# EAGLE library part HEADER-2X12 (library Header and Connector)
Header - 2X12
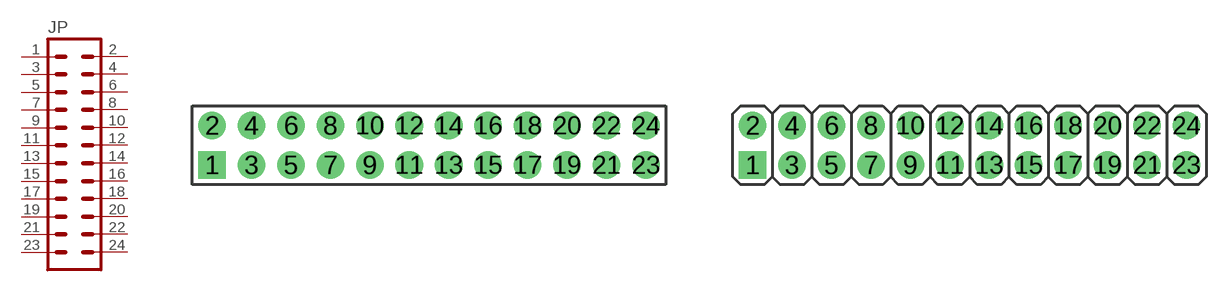
[diagram p36: symbol with the pads of HDR-F2X12; footprints HDR-F2X12, HDR-M2X12]

Designator prefix JP

## HEADER-2X12(_FEMALE) (CYTRON-PC: CN-PH-F240S; DESC: Female Header-2x40 ways; VALUE: 12/40 ways)  [HDR-F2X12]
1  1  pas
2  2  pas
3  3  pas
4  4  pas
5  5  pas
6  6  pas
7  7  pas
8  8  pas
9  9  pas
10  10  pas
11  11  pas
12  12  pas
13  13  pas
14  14  pas
15  15  pas
16  16  pas
17  17  pas
18  18  pas
19  19  pas
20  20  pas
21  21  pas
22  22  pas
23  23  pas
24  24  pas

## HEADER-2X12_(MALE) (CYTRON-PC: CN-PH-F240S; DESC: Male Header-2x40 ways; VALUE: 12/40 ways)  [HDR-M2X12]
Pads as for HDR-F2X12

## Footprint HDR-F2X12 (pad centres in mm)
drill 1 pad 1.778 square: 1 -13.97,-1.27
drill 1 pad 1.778: 2 -13.97,1.27; 3 -11.43,-1.27; 4 -11.43,1.27; 5 -8.89,-1.27; 6 -8.89,1.27; 7 -6.35,-1.27; 8 -6.35,1.27; 9 -3.81,-1.27; 10 -3.81,1.27; 11 -1.27,-1.27; 12 -1.27,1.27; 13 1.27,-1.27; 14 1.27,1.27; 15 3.81,-1.27; 16 3.81,1.27; 17 6.35,-1.27; 18 6.35,1.27; 19 8.89,-1.27; 20 8.89,1.27; 21 11.43,-1.27; 22 11.43,1.27; 23 13.97,-1.27; 24 13.97,1.27

## Footprint HDR-M2X12 (pad centres in mm)
Male Header - 2x12
drill 1 pad 1.778 square: 1 0,0
drill 1 pad 1.778: 2 0,2.54; 3 2.54,0; 4 2.54,2.54; 5 5.08,0; 6 5.08,2.54; 7 7.62,0; 8 7.62,2.54; 9 10.16,0; 10 10.16,2.54; 11 12.7,0; 12 12.7,2.54; 13 15.24,0; 14 15.24,2.54; 15 17.78,0; 16 17.78,2.54; 17 20.32,0; 18 20.32,2.54; 19 22.86,0; 20 22.86,2.54; 21 25.4,0; 22 25.4,2.54; 23 27.94,0; 24 27.94,2.54